# Altium footprint library SnapEDApcb.PcbLib: 1 footprints
Each footprint in its own frame and in the unit in brackets; x right, y up, seen from the top. Pads: shape width x height; smd on the part's side, far side on the other; paste and mask are expansions set on the pad; w line width, h text height; cw(c..) or ccw(c..) is an arc to the next point about the centre after c.
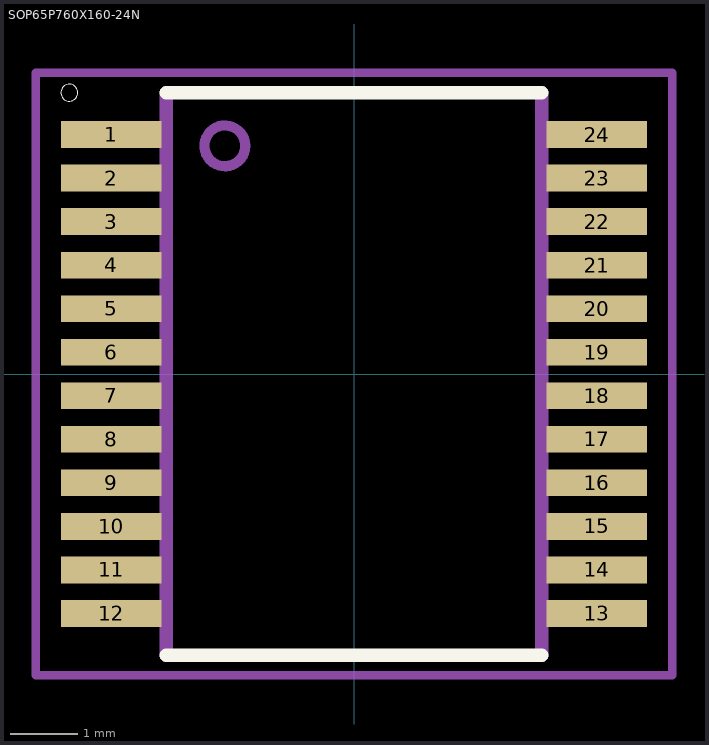
[diagram p0: the footprint, top view; thin cyan lines are the x and y axes]

## SOP65P760X160-24N [mm]
pads (24):
  rect 1.5x0.4 smd: 1(-3.625,3.575) 2(-3.625,2.925) 3(-3.625,2.275) 4(-3.625,1.625) 5(-3.625,0.975) 6(-3.625,0.325) 7(-3.625,-0.325) 8(-3.625,-0.975) 9(-3.625,-1.625) 10(-3.625,-2.275) 11(-3.625,-2.925) 12(-3.625,-3.575) 13(3.625,-3.575) 14(3.625,-2.925) 15(3.625,-2.275) 16(3.625,-1.625) 17(3.625,-0.975) 18(3.625,-0.325) 19(3.625,0.325) 20(3.625,0.975) 21(3.625,1.625) 22(3.625,2.275) 23(3.625,2.925) 24(3.625,3.575)
Top Overlay:
  circle w0: c-4.25,4.2 r0.127
  lines w0.203: -2.8,-4.2 2.8,-4.2 ; -2.8,4.2 2.8,4.2
Mechanical 13:
  circle w0.152: c-1.928,3.406 r0.305
  region: -2.8,3.435 -3.811,3.435 -3.811,3.725 -2.8,3.725
  region: -2.8,2.78 -3.807,2.78 -3.807,3.075 -2.8,3.075
  region: -2.8,2.132 -3.812,2.132 -3.812,2.425 -2.8,2.425
  region: -2.8,1.478 -3.807,1.478 -3.807,1.775 -2.8,1.775
  region: -2.8,0.827 -3.808,0.827 -3.808,1.125 -2.8,1.125
  region: -2.8,0.175 -3.807,0.175 -3.807,0.475 -2.8,0.475
  region: -2.8,-0.476 -3.812,-0.476 -3.812,-0.175 -2.8,-0.175
  region: -2.8,-1.127 -3.808,-1.127 -3.808,-0.825 -2.8,-0.825
  region: -2.8,-1.78 -3.81,-1.78 -3.81,-1.475 -2.8,-1.475
  region: -2.8,-2.432 -3.81,-2.432 -3.81,-2.125 -2.8,-2.125
  region: -2.8,-3.081 -3.808,-3.081 -3.808,-2.775 -2.8,-2.775
  region: -2.8,-3.733 -3.808,-3.733 -3.808,-3.425 -2.8,-3.425
  region: 3.8,0.175 2.807,0.175 2.807,0.475 3.8,0.475
  region: 3.8,0.827 2.807,0.827 2.807,1.125 3.8,1.125
  region: 3.8,2.126 2.802,2.126 2.802,2.425 3.8,2.425
  region: 3.8,2.781 2.806,2.781 2.806,3.075 3.8,3.075
  region: 3.8,3.431 2.805,3.431 2.805,3.725 3.8,3.725
  region: 3.8,-3.731 2.805,-3.731 2.805,-3.425 3.8,-3.425
  region: 3.8,-3.084 2.808,-3.084 2.808,-2.775 3.8,-2.775
  region: 3.8,-1.777 2.803,-1.777 2.803,-1.475 3.8,-1.475
  region: 3.8,-1.128 2.808,-1.128 2.808,-0.825 3.8,-0.825
  region: 3.8,-0.476 2.806,-0.476 2.806,-0.175 3.8,-0.175
  region: 3.8,1.478 2.805,1.478 2.805,1.775 3.8,1.775
  region: 3.8,-2.428 2.804,-2.428 2.804,-2.125 3.8,-2.125
  lines w0.203: -2.8,-4.2 -2.8,4.2 ; 2.8,-4.2 2.8,4.2
Mechanical 15:
  lines w0.127: -4.75,-4.5 4.75,-4.5 4.75,4.5 -4.75,4.5 -4.75,-4.5